# EAGLE library part APM4953 (library APM4953)
P-Channel Enhancement Mode Power MOSFET Source: Datasheet <https://datasheet.lcsc.com/szlcsc/Guangdong-Hottech-4953_C181099.pdf>
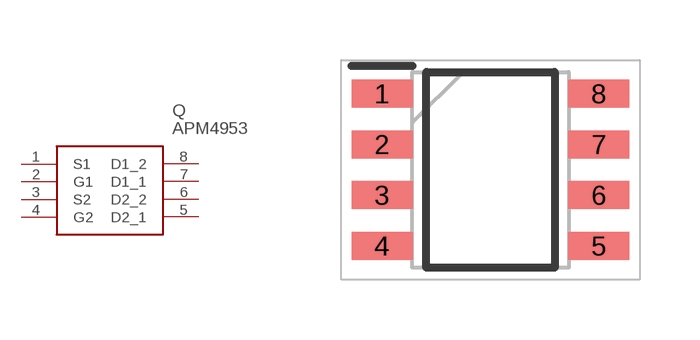
[diagram p0: symbol with the pads of SOIC127P600X175-8N; footprint SOIC127P600X175-8N]

Designator prefix Q

## APM4953 (Description: P-Channel Enhancement Mode Power MOSFET; Height: 1.75mm; Manufacturer_Name: Guangdong Hottech; Manufacturer_Part_Number: APM4953)  [SOIC127P600X175-8N]
1  S1
2  G1
3  S2
4  G2
5  D2_1
6  D2_2
7  D1_1
8  D1_2

## Footprint SOIC127P600X175-8N (pad centres in mm)
SOP-8 PIN
smd 1.525 x 0.7: 1 -2.712,1.905; 2 -2.712,0.635; 3 -2.712,-0.635; 4 -2.712,-1.905; 5 2.712,-1.905; 6 2.712,-0.635; 7 2.712,0.635; 8 2.712,1.905